# Altium footprint library CERAMIC_CAPACITORS.PcbLib: 6 footprints
Each footprint in its own frame and in the unit in brackets; x right, y up, seen from the top. Pads: shape width x height; smd on the part's side, far side on the other; paste and mask are expansions set on the pad; w line width, h text height; cw(c..) or ccw(c..) is an arc to the next point about the centre after c.
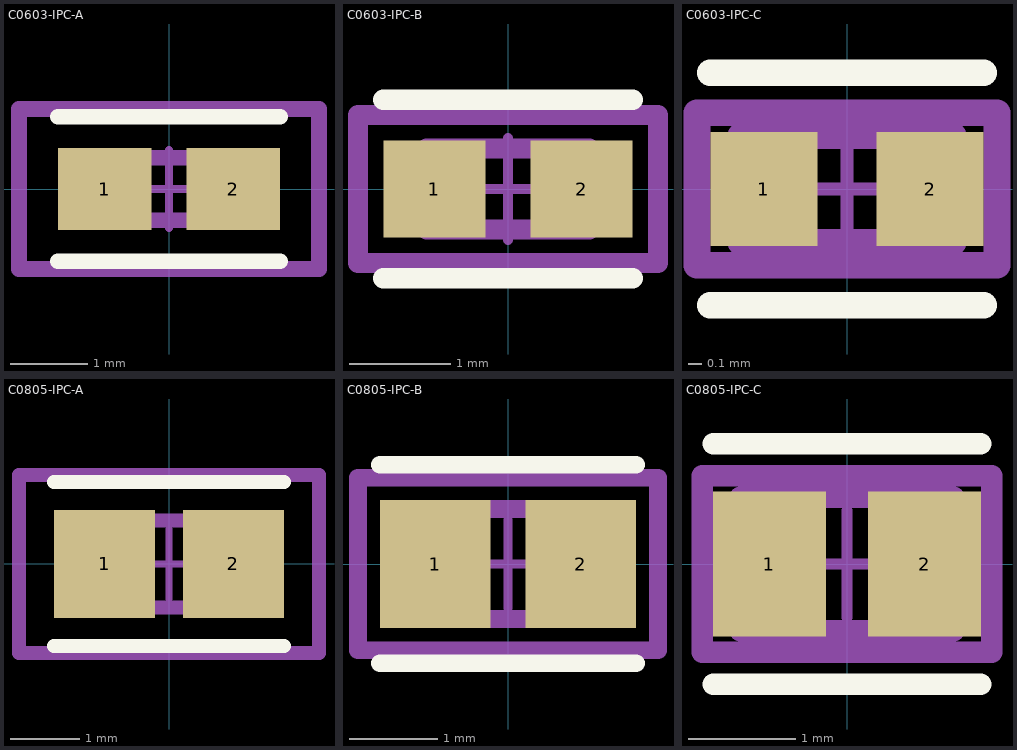
[diagram p0: the footprints below, top view; thin cyan lines are the x and y axes]

## C0603-IPC-A [mil] "C0603-IPC-A"
pads (2):
  rect 47.5x41.66 smd paste+0 mask+0: 1(-32.51,0) 2(32.51,0)
Top Overlay:
  lines w7.87: -56.26,-36.58 56.26,-36.58 ; -56.26,36.58 56.26,36.58
Top Assembly:
  lines w7.87: -75.95,-40.52 -75.95,40.52 75.95,40.52 75.95,-40.52 -75.95,-40.52
Top Component Center:
  lines w3.94: -19.68,0 19.68,0 ; 0,-19.68 0,19.68
Top Component Outline:
  lines w7.87: -31.49,-15.74 -31.49,15.75 31.5,15.75 31.5,-15.74 -31.49,-15.74
Top Courtyard:
  lines w7.87: -75.95,-40.52 75.95,-40.52 75.95,40.52 -75.95,40.52 -75.95,-40.52
Top Designator:
  text ".Designator" at -221.16,-59.36 h60
3D body "Cap_KEMET_C0603C272M5JACTU_eec.STEP": height 34.75, standoff 0.5, extent -31.5,-15.75 31.5,15.75

## C0603-IPC-B [mm] "C0603-IPC-B"
pads (2):
  rect 1.007x0.958 smd paste+0 mask+0: 1(-0.726,0) 2(0.726,0)
Top Overlay:
  lines w0.2: -1.229,-0.879 1.229,-0.879 ; -1.229,0.879 1.229,0.879
Top Assembly:
  lines w0.2: -1.479,-0.729 1.479,-0.729 1.479,0.729 -1.479,0.729 -1.479,-0.729
Top Component Center:
  lines w0.1: -0.5,0 0.5,0 ; 0,-0.5 0,0.5
Top Component Outline:
  lines w0.2: -0.8,-0.4 0.8,-0.4 0.8,0.4 -0.8,0.4 -0.8,-0.4
Top Courtyard:
  lines w0.2: -1.479,-0.729 -1.479,0.729 1.479,0.729 1.479,-0.729 -1.479,-0.729
Top Designator:
  text ".Designator" at -7.63,-0.521 h1.52
3D body "Cap_KEMET_C0603C272M5JACTU_eec.STEP": height 0.88, standoff 0.01, extent -0.8,-0.4 0.8,0.4

## C0603-IPC-C [mm] "C0603-IPC-C"
pads (2):
  rect 0.807x0.858 smd paste+0 mask+0: 1(-0.626,0) 2(0.626,0)
Top Overlay:
  lines w0.2: -1.029,-0.875 1.029,-0.875 ; -1.029,0.875 1.029,0.875
Top Assembly:
  lines w0.2: -1.129,-0.575 1.129,-0.575 1.129,0.575 -1.129,0.575 -1.129,-0.575
Top Component Center:
  lines w0.1: -0.5,0 0.5,0 ; 0,-0.5 0,0.5
Top Component Outline:
  lines w0.2: -0.8,-0.4 0.8,-0.4 0.8,0.4 -0.8,0.4 -0.8,-0.4
Top Courtyard:
  lines w0.2: -1.129,-0.575 -1.129,0.575 1.129,0.575 1.129,-0.575 -1.129,-0.575
Top Designator:
  text ".Designator" at -7.63,-0.521 h1.52
3D body "Cap_KEMET_C0603C272M5JACTU_eec.STEP": height 0.88, standoff 0.01, extent -0.8,-0.4 0.8,0.4

## C0805-IPC-A [mm] "C0805-IPC-A"
pads (2):
  rect 1.455x1.556 smd paste+0 mask+0: 1(-0.926,0) 2(0.926,0)
Top Overlay:
  lines w0.2: -1.653,-1.178 1.653,-1.178 ; -1.653,1.178 1.653,1.178
Top Assembly:
  lines w0.2: -2.153,-1.278 2.153,-1.278 2.153,1.278 -2.153,1.278 -2.153,-1.278
Top Component Center:
  lines w0.1: -0.5,0 0.5,0 ; 0,-0.5 0,0.5
Top Component Outline:
  lines w0.2: -1,-0.625 1,-0.625 1,0.625 -1,0.625 -1,-0.625
Top Courtyard:
  lines w0.2: -2.153,-1.278 -2.153,1.278 2.153,1.278 2.153,-1.278 -2.153,-1.278
Top Designator:
  text ".Designator" at -7.63,-0.521 h1.52
3D body "Cap_Murata_GRM21BC71C106KE11L_eec.STEP": height 1.47, standoff 0.01, extent -1,-0.625 1,0.625

## C0805-IPC-B [mm] "C0805-IPC-B"
pads (2):
  rect 1.255x1.456 smd paste+0 mask+0: 1(-0.826,0) 2(0.826,0)
Top Overlay:
  lines w0.2: -1.453,-1.128 1.453,-1.128 ; -1.453,1.128 1.453,1.128
Top Assembly:
  lines w0.2: -1.703,-0.978 -1.703,0.978 1.703,0.978 1.703,-0.978 -1.703,-0.978
Top Component Center:
  lines w0.1: -0.5,0 0.5,0 ; 0,-0.5 0,0.5
Top Component Outline:
  lines w0.2: -1,-0.625 1,-0.625 1,0.625 -1,0.625 -1,-0.625
Top Courtyard:
  lines w0.2: -1.703,-0.978 -1.703,0.978 1.703,0.978 1.703,-0.978 -1.703,-0.978
Top Designator:
  text ".Designator" at -7.63,-0.521 h1.52
3D body "Cap_Murata_GRM21BC71C106KE11L_eec.STEP": height 1.47, standoff 0.01, extent -1,-0.625 1,0.625

## C0805-IPC-C [mm] "C0805-IPC-C"
pads (2):
  rect 1.055x1.356 smd paste+0 mask+0: 1(-0.726,0) 2(0.726,0)
Top Overlay:
  lines w0.2: -1.253,-1.125 1.253,-1.125 ; -1.253,1.125 1.253,1.125
Top Assembly:
  lines w0.2: -1.353,-0.825 -1.353,0.825 1.353,0.825 1.353,-0.825 -1.353,-0.825
Top Component Center:
  lines w0.1: -0.5,0 0.5,0 ; 0,-0.5 0,0.5
Top Component Outline:
  lines w0.2: -1,-0.625 -1,0.625 1,0.625 1,-0.625 -1,-0.625
Top Courtyard:
  lines w0.2: -1.353,-0.825 1.353,-0.825 1.353,0.825 -1.353,0.825 -1.353,-0.825
Top Designator:
  text ".Designator" at -7.63,-0.521 h1.52
3D body "Cap_Murata_GRM21BC71C106KE11L_eec.STEP": height 1.47, standoff 0.01, extent -1,-0.625 1,0.625